# Altium integrated library TLLG4400.IntLib: 1 symbol
Pins are listed as number, name and electrical type; pins without a type are passive.

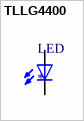
[diagram p0: symbol TLLG4400]

## TLLG4400
designator LED
Green 569nm LED Indication - Discrete 1.9V Radial; MP: TLLG4400; MF: Vishay; Package: Radial Vishay; Value: *; Digi-Key_Purchase_URL: https://www.digikey.com.tr/product-detail/en/vishay-semiconductor-opto-division/TLLG4400-AS12/TLLG4400-AS12TR-ND/6594860?utm_source=snapeda&utm_medium=aggregator&utm_campaign=symbol; Digi-Key_Part_Number: TLLG4400-AS12TR-ND; SnapEDA_Link: https://www.snapeda.com/parts/TLLG4400/Vishay/view-part/268070/?ref=snap
footprint LED3MM
pins: A, K C